# Altium footprint library Lib1.PcbLib: 70 footprints (part 3 of 5)
Each footprint in its own frame and in the unit in brackets; x right, y up, seen from the top. Pads: shape width x height; smd on the part's side, far side on the other; paste and mask are expansions set on the pad; w line width, h text height; cw(c..) or ccw(c..) is an arc to the next point about the centre after c.
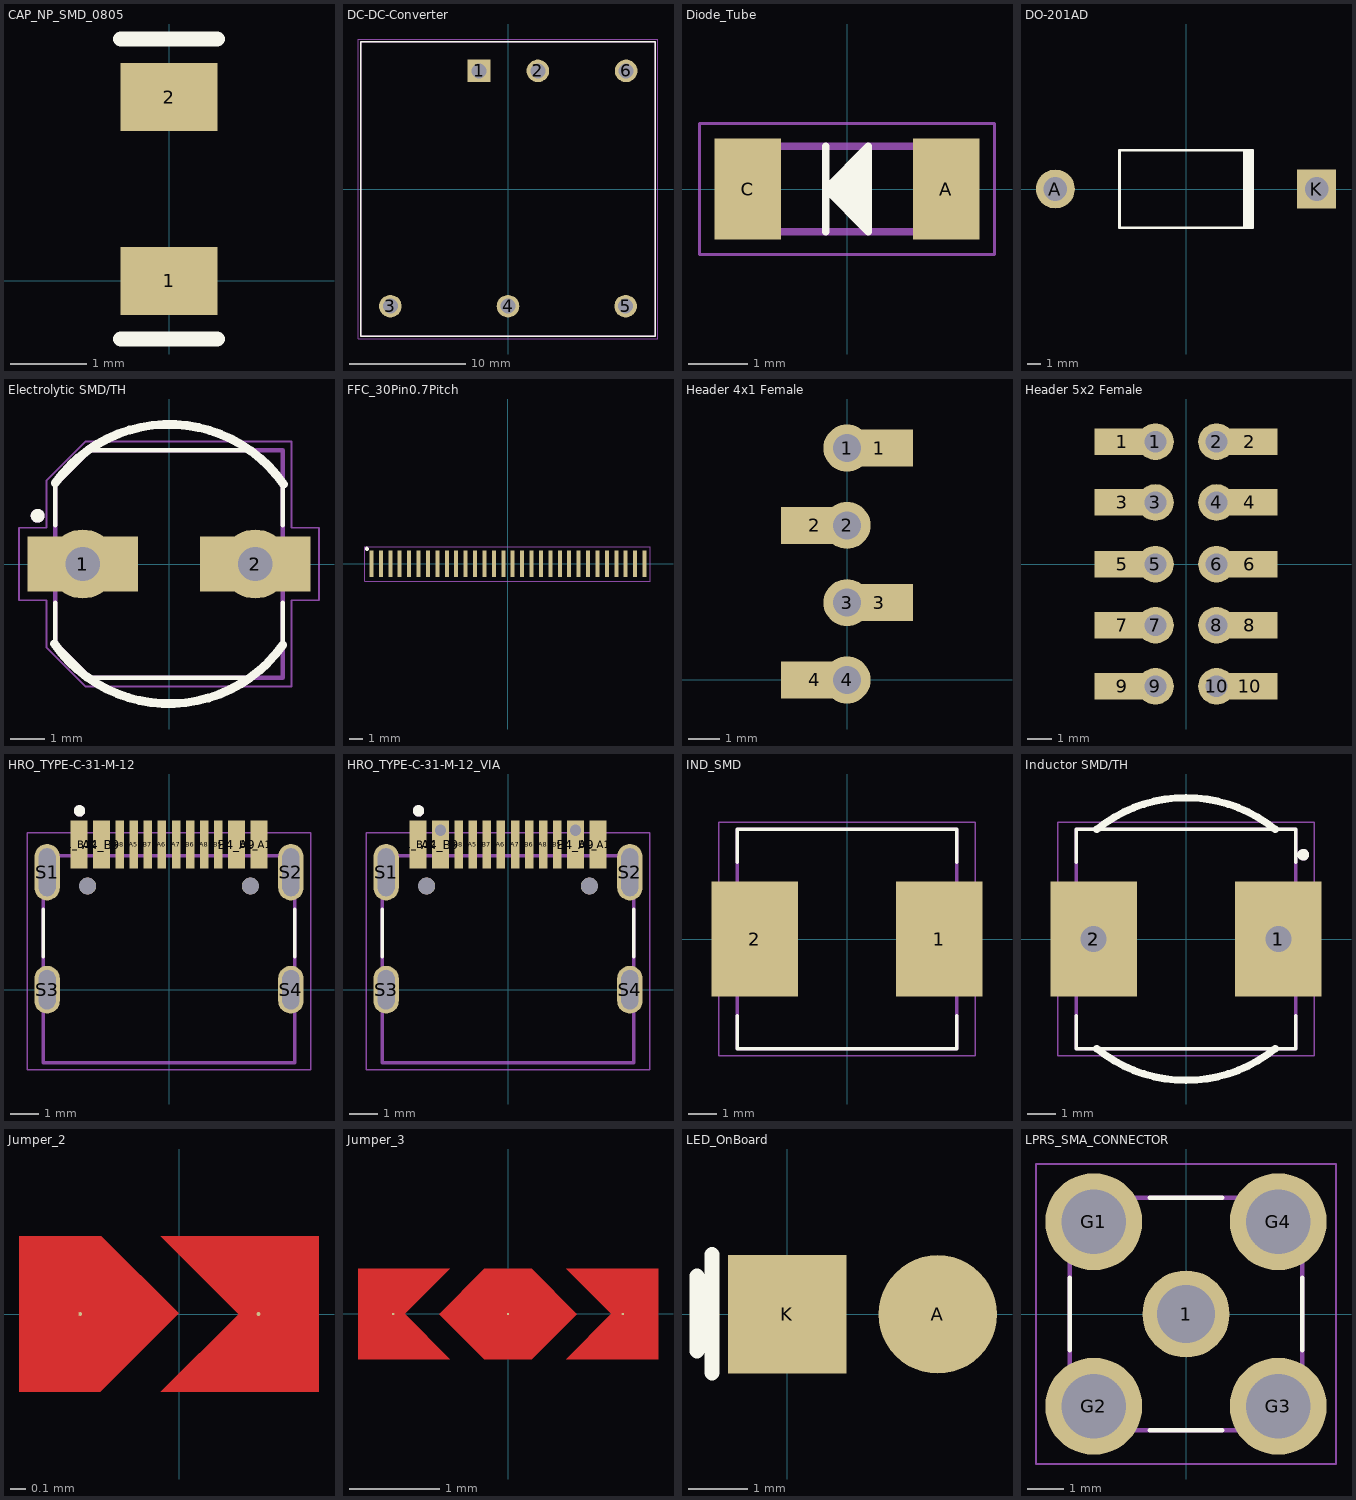
[diagram p2: the footprints below, top view; thin cyan lines are the x and y axes]

## CAP_NP_SMD_0805 [mil]
pads (2):
  rect 50x35 smd: 1(0,0) 2(0,95)
Top Overlay:
  lines w8: -25,-30 25,-30 ; -25,125 25,125
3D body "User Library-CAPC2013X10.STEP": height 39.37, standoff 0, extent -24.61,7.63 24.6,86.37

## DC-DC-Converter [mm]
pads (6):
  rect 1.95x1.95 / inner round 1.95 / far side rect 1.95x1.95 hole 1.3: 1(-2.5,10.2)
  round 1.95 hole 1.3: 2(2.58,10.2) 3(-10.16,-10.12) 4(0,-10.12) 5(10.16,-10.12) 6(10.2,10.2)
Top Overlay:
  lines w0.127: -12.7,-12.7 12.7,-12.7 12.7,12.7 -12.7,12.7 -12.7,-12.7
Mechanical 13:
  lines w0.127: -12.7,-12.7 12.7,-12.7 12.7,12.7 -12.7,12.7 -12.7,-12.7
Mechanical 15:
  lines w0.05: -12.95,-12.95 12.95,-12.95 12.95,12.95 -12.95,12.95 -12.95,-12.95
3D body "DC-DC Converter.stp": height 10.2, standoff -5.6, extent -12.7,-12.7 12.7,12.7

## Diode_Tube [mm]
pads (2):
  rect 1.13x1.72 smd: A(1.69,0) C(-1.69,0)
Top Overlay:
  lines w0.127: -0.362,-0.725 -0.362,0.725 ; -0.363,0 0.362,0.725 ; -0.363,0 0.362,-0.725 0.362,0.725 ; -0.363,0 0.362,0.725
  lines w0.254: -0.198,0.002 0.063,0.002 ; -0.067,-0.196 -0.067,-0.009 ; -0.068,0.002 -0.068,0.189 ; 0.065,-0.307 0.065,0.307 ; 0.254,-0.508 0.254,0.508
Mechanical 13:
  lines w0.127: -1.75,-0.725 -1.75,0.725 1.75,0.725 1.75,-0.725 -1.75,-0.725
Mechanical 15:
  lines w0.05: -2.505,-1.11 -2.505,1.11 2.505,1.11 2.505,-1.11 -2.505,-1.11
3D body "step_temp.STEP": height 1.6, standoff 0, extent -1.75,-0.785 1.75,0.785

## DO-201AD [mm] "Diode, Axial; Body 9.5 x 5.6 mm (LxDia. max), Lead Dia. 1.32 mm (max)"
pads (2):
  round 2.8 hole 1.7: A(-9.42,0)
  rect 2.8x2.8 hole 1.7: K(9.42,0)
Top Overlay:
  rectangle: 4.1,-2.8 4.9,2.8
  lines w0.2: 4.8,-2.8 -4.8,-2.8 -4.8,2.8 4.8,2.8

## Electrolytic SMD/TH [mm]
pads (4):
  rect 3.2x1.6 smd: 1(-2.5,0) 2(2.5,0)
  round 2 hole 1: 1(-2.5,0) 2(2.5,0)
Top Overlay:
  circle w0.2: c-3.81,1.397 r0.1
  lines w0.127: -3.3,-1.12 -3.3,-2.3 -2.3,-3.3 2.348,-3.3 3.3,-2.348 3.3,-1.12 ; -3.3,1.12 -3.3,2.3 -2.3,3.3 2.338,3.3 3.3,2.338 3.3,1.12
  lines w0.254: -3.323,-2.316 ccw(c0,0) 3.3,-2.348 ; -3.3,2.348 cw(c0,0) 3.323,2.316
Mechanical 13:
  circle w0.2: c-3.81,1.397 r0.1
  lines w0.127: -3.3,-2.3 -2.3,-3.3 3.3,-3.3 3.3,3.3 -2.3,3.3 -3.3,2.3 -3.3,-2.3
Mechanical 15:
  lines w0.05: -4.35,-1.05 -4.35,1.05 -3.55,1.05 -3.55,2.425 -2.425,3.55 3.55,3.55 3.55,1.05 4.35,1.05 4.35,-1.05 3.55,-1.05 3.55,-3.55 -2.425,-3.55 -3.55,-2.425 -3.55,-1.05 -4.35,-1.05
3D body "step_temp.STEP": height 7.7, standoff 0, extent -3.65,-3.3 3.65,3.3

## FFC_30Pin0.7Pitch [mm]
pads (30):
  rect 0.3x2 smd: 01(-10.15,0) 02(-9.45,0) 03(-8.75,0) 04(-8.05,0) 05(-7.35,0) 06(-6.65,0) 07(-5.95,0) 08(-5.25,0) 09(-4.55,0) 10(-3.85,0) 11(-3.15,0) 12(-2.45,0) 13(-1.75,0) 14(-1.05,0) 15(-0.35,0) 16(0.35,0) 17(1.05,0) 18(1.75,0) 19(2.45,0) 20(3.15,0) 21(3.85,0) 22(4.55,0) 23(5.25,0) 24(5.95,0) 25(6.65,0) 26(7.35,0) 27(8.05,0) 28(8.75,0) 29(9.45,0) 30(10.15,0)
Top Overlay:
  circle w0.254: c-10.494,1.11 r0.025
Mechanical 15:
  lines w0.05: -10.647,-1.291 -10.647,1.25 10.562,1.25 10.562,-1.291 -10.647,-1.291

## Header 4x1 Female [mm]
pads (8):
  round 1.524 hole 0.9: 1(0,7.5) 2(0,5) 3(0,2.5) 4(0,0)
  rect 2.2x1.2 smd: 1(1.038,7.5) 2(-1.038,5) 3(1.038,2.5) 4(-1.038,0)

## Header 5x2 Female [mm]
pads (20):
  rect 2.3x1.1 smd: 1(-2.646,5.093) 2(2.646,5.093) 3(-2.646,2.565) 4(2.646,2.565) 5(-2.646,0) 6(2.646,0) 7(-2.646,-2.54) 8(2.646,-2.54) 9(-2.646,-5.08) 10(2.646,-5.08)
  round 1.524 hole 0.9: 1(-1.27,5.093) 2(1.27,5.093) 3(-1.27,2.565) 4(1.27,2.565) 5(-1.27,0) 6(1.27,0) 7(-1.27,-2.54) 8(1.27,-2.54) 9(-1.27,-5.08) 10(1.27,-5.08)

## HRO_TYPE-C-31-M-12 [mm]
height 3.26
pads (18):
  rect 0.6x1.7 smd mask+0.05: A1_B12(-3.2,5.15) A4_B9(-2.4,5.15) B1_A12(3.2,5.15) B4_A9(2.4,5.15)
  rect 0.3x1.7 smd mask+0.05: A5(-1.25,5.15) A6(-0.25,5.15) A7(0.25,5.15) A8(1.25,5.15) B5(1.75,5.15) B6(0.75,5.15) B7(-0.75,5.15) B8(-1.75,5.15)
  oval 0.9x2 hole 0.6 slot 1.7 at 90 deg: S1(-4.325,4.17) S2(4.325,4.17)
  oval 0.9x1.7 hole 0.6 slot 1.4 at 90 deg: S3(-4.325,0) S4(4.325,0)
  round 0.6 hole 0.6 unplated: ""(-2.89,3.68) ""(2.89,3.68)
Top Overlay:
  circle w0.2: c-3.175,6.35 r0.1
  lines w0.127: -4.47,1.17 -4.47,2.85 ; 4.47,1.17 4.47,2.85
Mechanical 13:
  circle w0.2: c-3.175,6.35 r0.1
  lines w0.127: -4.47,-2.6 -4.47,4.75 4.47,4.75 4.47,-2.6 -4.47,-2.6
Mechanical 15:
  lines w0.05: -5.025,-2.85 5.025,-2.85 5.025,5.57 -5.025,5.57 -5.025,-2.85
3D body "step_temp.STEP": height 3.31, standoff -0.99, extent -4.47,-2.6 4.47,5.305

## HRO_TYPE-C-31-M-12_VIA [mm]
height 3.26
pads (20):
  rect 0.6x1.7 smd mask+0.05: A1_B12(-3.2,5.15) A4_B9(-2.4,5.15) B1_A12(3.2,5.15) B4_A9(2.4,5.15)
  round 0.4 / inner round 0.5 / far side round 0.7 hole 0.4: A4_B9(-2.4,5.658) B4_A9(2.4,5.658)
  rect 0.3x1.7 smd mask+0.05: A5(-1.25,5.15) A6(-0.25,5.15) A7(0.25,5.15) A8(1.25,5.15) B5(1.75,5.15) B6(0.75,5.15) B7(-0.75,5.15) B8(-1.75,5.15)
  oval 0.9x2 hole 0.6 slot 1.7 at 90 deg: S1(-4.325,4.17) S2(4.325,4.17)
  oval 0.9x1.7 hole 0.6 slot 1.4 at 90 deg: S3(-4.325,0) S4(4.325,0)
  round 0.6 hole 0.6 unplated: ""(-2.89,3.68) ""(2.89,3.68)
Top Overlay:
  circle w0.2: c-3.175,6.35 r0.1
  lines w0.127: -4.47,1.17 -4.47,2.85 ; 4.47,1.17 4.47,2.85
Mechanical 13:
  circle w0.2: c-3.175,6.35 r0.1
  lines w0.127: -4.47,-2.6 4.47,-2.6 4.47,4.75 -4.47,4.75 -4.47,-2.6
Mechanical 15:
  lines w0.05: -5.025,-2.85 -5.025,5.57 5.025,5.57 5.025,-2.85 -5.025,-2.85
3D body "step_temp.STEP": height 3.31, standoff -0.99, extent -4.47,-2.6 4.47,5.305

## IND_SMD [mm]
pads (2):
  rect 3x4 smd: 1(3.2,0) 2(-3.2,0)
Top Overlay:
  lines w0.127: -3.8,-2.667 -3.8,-3.8 3.8,-3.8 3.8,-2.667 ; -3.8,2.667 -3.8,3.8 3.8,3.8 3.8,2.667
Mechanical 13:
  lines w0.127: -3.8,-3.8 3.8,-3.8 3.8,3.8 -3.8,3.8 -3.8,-3.8
Mechanical 15:
  lines w0.05: -4.45,-4.05 4.45,-4.05 4.45,4.05 -4.45,4.05 -4.45,-4.05
3D body "B1047AS-101M=P3.STEP": height 5, standoff 0, extent -3.8,-3.8 3.8,3.8

## Inductor SMD/TH [mm]
pads (4):
  rect 3x4 smd: 1(3.2,0) 2(-3.2,0)
  round 2 hole 0.9: 1(3.2,0) 2(-3.2,0)
Top Overlay:
  circle w0.2: c4.064,2.921 r0.1
  lines w0.127: -3.8,-2.667 -3.8,-3.8 3.8,-3.8 3.8,-2.667 ; -3.8,2.667 -3.8,3.8 3.8,3.8 3.8,2.667
  lines w0.254: -3.094,-3.8 ccw(c0,0) 3.094,-3.8 ; -3.094,3.8 cw(c0,0) 3.094,3.8
Mechanical 13:
  circle w0.2: c4.064,2.921 r0.1
  lines w0.127: -3.8,-3.8 -3.8,3.8 3.8,3.8 3.8,-3.8 -3.8,-3.8
Mechanical 15:
  lines w0.05: -4.45,-4.05 -4.45,4.05 4.45,4.05 4.45,-4.05 -4.45,-4.05
3D body "B1047AS-101M=P3.STEP": height 5, standoff 0, extent -3.8,-3.8 3.8,3.8

## Jumper_2 [mil]
pads (2):
  round 1 smd: 1(20,0) 2(-25,0)
Top Layer:
  region: -40.47,19.69 -40.47,-19.69 -20,-19.69 -0.16,0.16 -19.69,19.69
  region: 15,0 -4.69,-19.69 35.31,-19.69 35.31,19.69 -4.69,19.69

## Jumper_3 [mil]
pads (3):
  round 1 smd: 1(-50,0) 2(0,0) 3(50,0)
Top Layer:
  region: -45,0 -25.31,19.69 -65.31,19.69 -65.31,-19.69 -25.31,-19.69
  region: 45,0 25.31,-19.69 65.31,-19.69 65.31,19.69 25.31,19.69
  region: -30,0 -10.31,-19.69 10.31,-19.69 30,0 10.31,19.69 -10.31,19.69

## LED_OnBoard [mm]
pads (2):
  round 2 smd: A(2.54,0)
  rect 2x2 smd: K(0,0)
Top Overlay:
  lines w0.254: -1.524,-0.619 -1.524,0.651 ; -1.27,-0.984 -1.27,1.016
3D body "JesusMC_led 3mm blancov3.step": height 32.07, standoff 0.57, extent -0.531,-1.917 2.894,1.917

## LPRS_SMA_CONNECTOR [mm]
height 8.3
pads (5):
  round 2.4 hole 1.6: 1(0,0)
  round 2.67 hole 1.78: G1(-2.54,2.54) G2(-2.54,-2.54) G3(2.54,-2.54) G4(2.54,2.54)
Top Overlay:
  lines w0.127: -3.2,-1 -3.2,1 ; -1,-3.2 1,-3.2 ; -1,3.2 1,3.2 ; 3.2,-1 3.2,1
Mechanical 13:
  lines w0.127: -3.2,-3.2 -3.2,3.2 3.2,3.2 3.2,-3.2 -3.2,-3.2
Mechanical 15:
  lines w0.05: -4.13,-4.13 -4.13,4.13 4.13,4.13 4.13,-4.13 -4.13,-4.13
3D body "step_temp.STEP": height 13.6, standoff 0, extent -3.377,-3.325 3.123,3.175